# Altium footprint library NEUDOSE-Components.PcbLib: 27 footprints (part 2 of 2)
Each footprint in its own frame and in the unit in brackets; x right, y up, seen from the top. Pads: shape width x height; smd on the part's side, far side on the other; paste and mask are expansions set on the pad; w line width, h text height; cw(c..) or ccw(c..) is an arc to the next point about the centre after c.
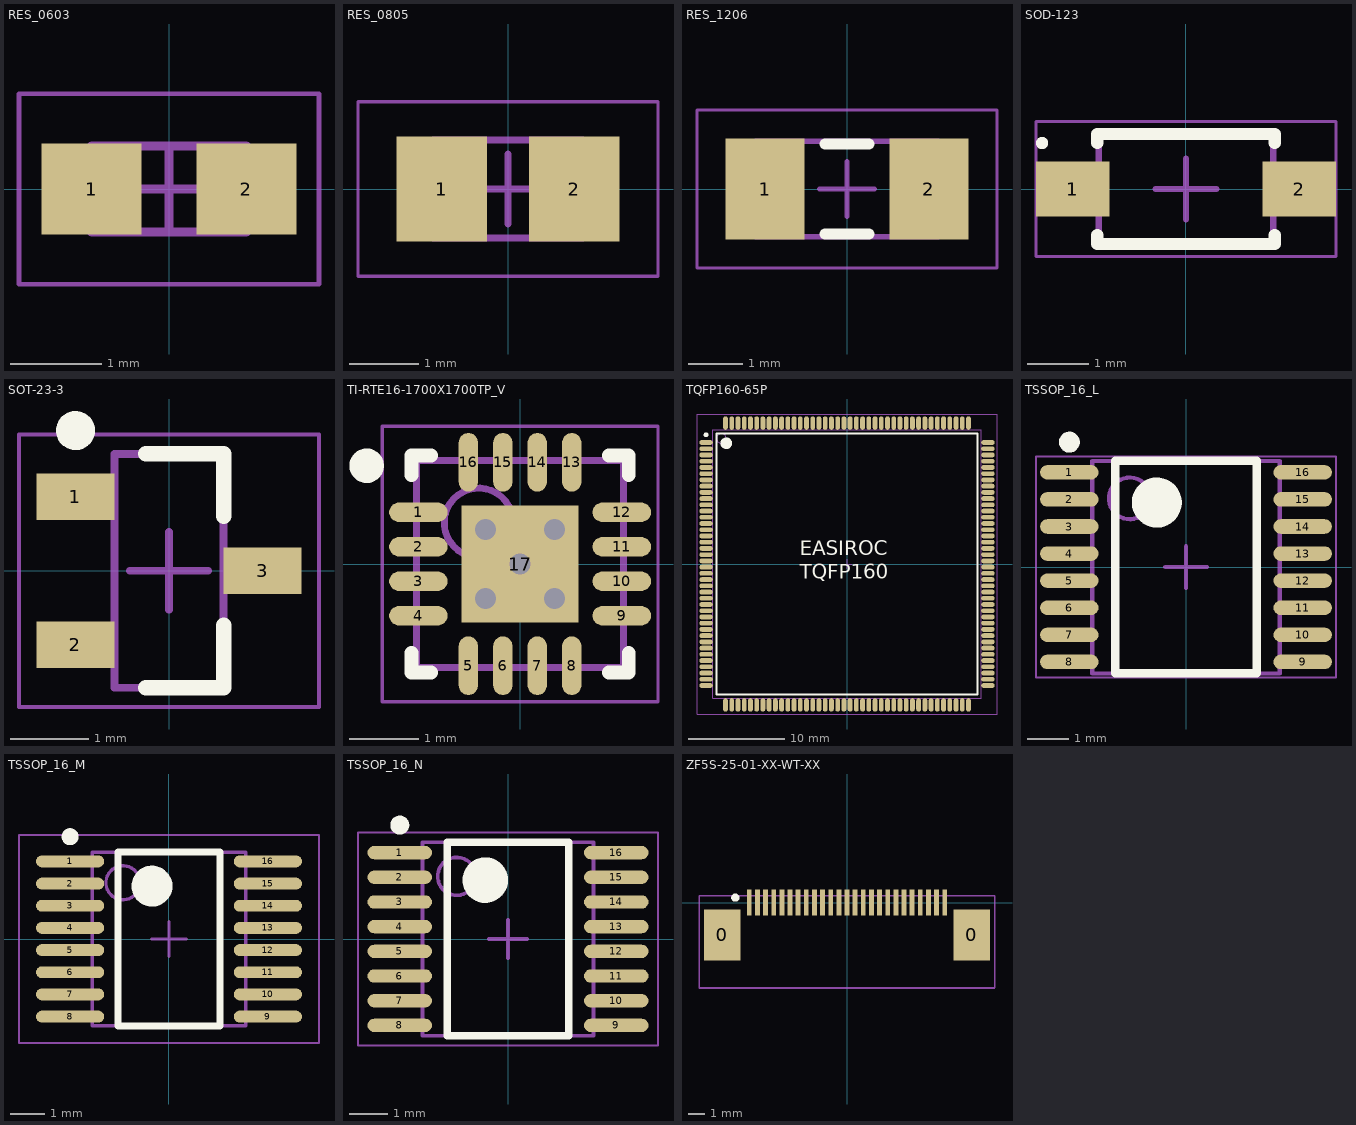
[diagram p1: the footprints below, top view; thin cyan lines are the x and y axes]

## RES_0603 [mm] "Chip Resistor, 2-Leads, Body 1.60x0.82mm, IPC Low Density"
height 0.6
pads (2):
  rect 1.1x1 smd: 1(-0.85,0) 2(0.85,0)
Mechanical 13:
  lines w0.1: -0.85,-0.475 0.85,-0.475 0.85,0.475 -0.85,0.475 -0.85,-0.475
Mechanical 15:
  lines w0.05: -1.65,-1.05 1.65,-1.05 1.65,1.05 -1.65,1.05 -1.65,-1.05
  lines w0.1: -0.475,0 0.475,0 ; 0,-0.475 0,0.475
3D body: height 0.6, standoff 0, extent 0.57,-0.475 0.85,0.475
3D body: height 0.6, standoff 0, extent -0.85,-0.475 -0.57,0.475
3D body: height 0.6, standoff 0, extent -0.57,-0.475 0.57,0.475

## RES_0805 [mm] "Chip Resistor, 2-Leads, Body 2.00x1.25mm, IPC Low Density"
height 0.65
pads (2):
  rect 1.3x1.5 smd: 1(-0.95,0) 2(0.95,0)
Mechanical 13:
  lines w0.1: -1.075,-0.7 -1.075,0.7 1.075,0.7 1.075,-0.7 -1.075,-0.7
Mechanical 15:
  lines w0.05: -2.15,-1.25 -2.15,1.25 2.15,1.25 2.15,-1.25 -2.15,-1.25
  lines w0.1: -0.5,0 0.5,0 ; 0,-0.5 0,0.5
3D body: height 0.65, standoff 0, extent -0.675,-0.7 0.675,0.7
3D body: height 0.65, standoff 0, extent -1.075,-0.7 -0.675,0.7
3D body: height 0.65, standoff 0, extent 0.675,-0.7 1.075,0.7

## RES_1206 [mm] "Chip Resistor, 2-Leads, Body 3.20x1.60mm, IPC Low Density"
height 0.71
pads (2):
  rect 1.45x1.85 smd: 1(-1.5,0) 2(1.5,0)
Top Overlay:
  lines w0.2: -0.4,-0.825 0.4,-0.825 ; -0.4,0.825 0.4,0.825
Mechanical 13:
  lines w0.1: -1.675,-0.875 1.675,-0.875 1.675,0.875 -1.675,0.875 -1.675,-0.875
Mechanical 15:
  lines w0.05: -2.75,-1.45 2.75,-1.45 2.75,1.45 -2.75,1.45 -2.75,-1.45
  lines w0.1: -0.5,0 0.5,0 ; 0,-0.5 0,0.5
3D body: height 0.71, standoff 0, extent 1.175,-0.875 1.675,0.875
3D body: height 0.71, standoff 0, extent -1.675,-0.875 -1.175,0.875
3D body: height 0.71, standoff 0, extent -1.175,-0.875 1.175,0.875

## SOD-123 [mm] "SOD-123, 2-Leads, Body 1.60x3.70mm, IPC Low Density"
height 1.35
pads (2):
  rect 1.2x0.9 smd: 1(-1.85,0) 2(1.85,0)
Top Overlay:
  circle w0.1: c-2.35,0.75 r0.05
  lines w0.2: -1.45,-0.75 -1.45,-0.9 1.45,-0.9 1.45,-0.75 ; -1.45,0.75 -1.45,0.9 1.45,0.9 1.45,0.75
Mechanical 13:
  lines w0.1: -1.425,-0.9 1.425,-0.9 1.425,0.9 -1.425,0.9 -1.425,-0.9
Mechanical 15:
  lines w0.05: -2.45,-1.1 2.45,-1.1 2.45,1.1 -2.45,1.1 -2.45,-1.1
  lines w0.1: -0.5,0 0.5,0 ; 0,-0.5 0,0.5
3D body: height 1.35, standoff 0, extent -1.425,-0.9 1.425,0.9

## SOT-23-3 [mm] "SOT23, 3-Leads, Body 2.90x2.45mm, Pitch 0.95mm, IPC Medium Density"
height 1.1
pads (3):
  rect 1x0.6 smd: 1(-1.2,0.95) 2(-1.2,-0.95) 3(1.2,0)
Top Overlay:
  circle w0.25: c-1.2,1.8 r0.125
  lines w0.2: -0.3,-1.5 0.7,-1.5 0.7,-0.7 ; -0.3,1.5 0.7,1.5 0.7,0.7
Mechanical 13:
  lines w0.1: -0.7,-1.5 -0.7,1.5 0.7,1.5 0.7,-1.5 -0.7,-1.5
Mechanical 15:
  lines w0.05: -1.925,-1.75 -1.925,1.75 1.925,1.75 1.925,-1.75 -1.925,-1.75
  lines w0.1: -0.5,0 0.5,0 ; 0,-0.5 0,0.5
3D body "SOT-23-3.STEP": height 1.01, standoff -0.01, extent -1.25,-1.46 1.226,1.46

## TI-RTE16-1700X1700TP_V [mm] "QFN, 16-Leads, Body 3x3mm, Pitch 0.5mm, Thermal Pad 1.7x1.7mm"
height 0.8
pads (17):
  oval 0.85x0.28 smd: 1(-1.475,0.75) 2(-1.475,0.25) 3(-1.475,-0.25) 4(-1.475,-0.75) 9(1.475,-0.75) 10(1.475,-0.25) 11(1.475,0.25) 12(1.475,0.75)
  oval 0.28x0.85 smd: 5(-0.75,-1.475) 6(-0.25,-1.475) 7(0.25,-1.475) 8(0.75,-1.475) 13(0.75,1.475) 14(0.25,1.475) 15(-0.25,1.475) 16(-0.75,1.475)
  rect 1.7x1.7 smd: 17(0,0)
via 0.5,-0.5 diameter 0.5 hole 0.3
via 0.5,0.5 diameter 0.5 hole 0.3
via -0.5,0.5 diameter 0.5 hole 0.3
via -0.5,-0.5 diameter 0.5 hole 0.3
via 0,0 diameter 0.5 hole 0.3
Top Overlay:
  circle w0.25: c-2.225,1.425 r0.125
  lines w0.2: -1.575,-1.29 -1.575,-1.575 -1.29,-1.575 ; -1.575,1.29 -1.575,1.575 -1.29,1.575 ; 1.29,-1.575 1.575,-1.575 1.575,-1.29 ; 1.29,1.575 1.575,1.575 1.575,1.29
Mechanical 13:
  circle w0.1: c-0.6,0.6 r0.5
  lines w0.1: -1.5,-1.5 -1.5,1.5 1.5,1.5 1.5,-1.5 -1.5,-1.5
Mechanical 15:
  lines w0.05: -2,-2 -2,2 2,2 2,-2 -2,-2
  lines w0.1: -0.5,0 0.5,0 ; 0,-0.5 0,0.5
3D body "QFN-16.step": height 0.9, standoff 0, extent -1.501,-1.501 1.501,1.501

## TQFP160-65P [mm] "TQFP (adapted from pqfp footprint), 160-Leads, Body 28.00x28.00mm, Pitch 0.65mm, IPC Medium Density"
height 4
pads (160):
  oval 1.4x0.5 smd: 1(-14.7,12.675) 2(-14.7,12.025) 3(-14.7,11.375) 4(-14.7,10.725) 5(-14.7,10.075) 6(-14.7,9.425) 7(-14.7,8.775) 8(-14.7,8.125) 9(-14.7,7.475) 10(-14.7,6.825) 11(-14.7,6.175) 12(-14.7,5.525) 13(-14.7,4.875) 14(-14.7,4.225) 15(-14.7,3.575) 16(-14.7,2.925) 17(-14.7,2.275) 18(-14.7,1.625) 19(-14.7,0.975) 20(-14.7,0.325) 21(-14.7,-0.325) 22(-14.7,-0.975) 23(-14.7,-1.625) 24(-14.7,-2.275) 25(-14.7,-2.925) 26(-14.7,-3.575) 27(-14.7,-4.225) 28(-14.7,-4.875) 29(-14.7,-5.525) 30(-14.7,-6.175) 31(-14.7,-6.825) 32(-14.7,-7.475) 33(-14.7,-8.125) 34(-14.7,-8.775) 35(-14.7,-9.425) 36(-14.7,-10.075) 37(-14.7,-10.725) 38(-14.7,-11.375) 39(-14.7,-12.025) 40(-14.7,-12.675) 81(14.7,-12.675) 82(14.7,-12.025) 83(14.7,-11.375) 84(14.7,-10.725) 85(14.7,-10.075) 86(14.7,-9.425) 87(14.7,-8.775) 88(14.7,-8.125) 89(14.7,-7.475) 90(14.7,-6.825) 91(14.7,-6.175) 92(14.7,-5.525) 93(14.7,-4.875) 94(14.7,-4.225) 95(14.7,-3.575) 96(14.7,-2.925) 97(14.7,-2.275) 98(14.7,-1.625) 99(14.7,-0.975) 100(14.7,-0.325) 101(14.7,0.325) 102(14.7,0.975) 103(14.7,1.625) 104(14.7,2.275) 105(14.7,2.925) 106(14.7,3.575) 107(14.7,4.225) 108(14.7,4.875) 109(14.7,5.525) 110(14.7,6.175) 111(14.7,6.825) 112(14.7,7.475) 113(14.7,8.125) 114(14.7,8.775) 115(14.7,9.425) 116(14.7,10.075) 117(14.7,10.725) 118(14.7,11.375) 119(14.7,12.025) 120(14.7,12.675)
  oval 0.5x1.4 smd: 41(-12.675,-14.7) 42(-12.025,-14.7) 43(-11.375,-14.7) 44(-10.725,-14.7) 45(-10.075,-14.7) 46(-9.425,-14.7) 47(-8.775,-14.7) 48(-8.125,-14.7) 49(-7.475,-14.7) 50(-6.825,-14.7) 51(-6.175,-14.7) 52(-5.525,-14.7) 53(-4.875,-14.7) 54(-4.225,-14.7) 55(-3.575,-14.7) 56(-2.925,-14.7) 57(-2.275,-14.7) 58(-1.625,-14.7) 59(-0.975,-14.7) 60(-0.325,-14.7) 61(0.325,-14.7) 62(0.975,-14.7) 63(1.625,-14.7) 64(2.275,-14.7) 65(2.925,-14.7) 66(3.575,-14.7) 67(4.225,-14.7) 68(4.875,-14.7) 69(5.525,-14.7) 70(6.175,-14.7) 71(6.825,-14.7) 72(7.475,-14.7) 73(8.125,-14.7) 74(8.775,-14.7) 75(9.425,-14.7) 76(10.075,-14.7) 77(10.725,-14.7) 78(11.375,-14.7) 79(12.025,-14.7) 80(12.675,-14.7) 121(12.675,14.7) 122(12.025,14.7) 123(11.375,14.7) 124(10.725,14.7) 125(10.075,14.7) 126(9.425,14.7) 127(8.775,14.7) 128(8.125,14.7) 129(7.475,14.7) 130(6.825,14.7) 131(6.175,14.7) 132(5.525,14.7) 133(4.875,14.7) 134(4.225,14.7) 135(3.575,14.7) 136(2.925,14.7) 137(2.275,14.7) 138(1.625,14.7) 139(0.975,14.7) 140(0.325,14.7) 141(-0.325,14.7) 142(-0.975,14.7) 143(-1.625,14.7) 144(-2.275,14.7) 145(-2.925,14.7) 146(-3.575,14.7) 147(-4.225,14.7) 148(-4.875,14.7) 149(-5.525,14.7) 150(-6.175,14.7) 151(-6.825,14.7) 152(-7.475,14.7) 153(-8.125,14.7) 154(-8.775,14.7) 155(-9.425,14.7) 156(-10.075,14.7) 157(-10.725,14.7) 158(-11.375,14.7) 159(-12.025,14.7) 160(-12.675,14.7)
Top Overlay:
  circle w0.25: c-14.7,13.475 r0.125
  circle w0.6: c-12.6,12.6 r0.3
  lines w0.2: -13.6,-13.6 -13.6,13.6 13.6,13.6 13.6,-13.6 -13.6,-13.6
  text "EASIROC" at -4.953,0.889 h1.52
  text "TQFP160" at -4.953,-1.524 h1.52
Mechanical 13:
  circle w0.1: c-13.1,13.1 r0.5
  lines w0.1: -14,-14 -14,14 14,14 14,-14 -14,-14
Mechanical 15:
  lines w0.05: -15.65,-15.65 -15.65,15.65 15.65,15.65 15.65,-15.65 -15.65,-15.65
  lines w0.1: -0.5,0 0.5,0 ; 0,-0.5 0,0.5
3D body: height 4, standoff 0, extent -14,-14 14,14

## TSSOP_16_L [mm] "TSOP, 16-Leads, Body 5x4.4mm, Pitch 0.65mm, IPC High Density"
height 1.1
pads (16):
  oval 1.4x0.35 smd: 1(-2.8,2.275) 2(-2.8,1.625) 3(-2.8,0.975) 4(-2.8,0.325) 5(-2.8,-0.325) 6(-2.8,-0.975) 7(-2.8,-1.625) 8(-2.8,-2.275) 9(2.8,-2.275) 10(2.8,-1.625) 11(2.8,-0.975) 12(2.8,-0.325) 13(2.8,0.325) 14(2.8,0.975) 15(2.8,1.625) 16(2.8,2.275)
Top Overlay:
  circle w0.6: c-0.7,1.55 r0.3
  circle w0.25: c-2.8,3 r0.125
  lines w0.2: -1.7,-2.55 1.7,-2.55 1.7,2.55 -1.7,2.55 -1.7,-2.55
Mechanical 13:
  circle w0.1: c-1.35,1.65 r0.5
  lines w0.1: -2.25,-2.55 2.25,-2.55 2.25,2.55 -2.25,2.55 -2.25,-2.55
Mechanical 15:
  lines w0.05: -3.6,-2.65 3.6,-2.65 3.6,2.65 -3.6,2.65 -3.6,-2.65
  lines w0.1: -0.5,0 0.5,0 ; 0,-0.5 0,0.5
3D body "TSSOP-16-1.step": height 1.1, standoff 0, extent -3.2,-2.5 3.2,2.5

## TSSOP_16_M [mm] "TSOP, 16-Leads, Body 5x4.4mm, Pitch 0.65mm, IPC Low Density"
height 1.1
pads (16):
  oval 2x0.35 smd: 1(-2.9,2.275) 2(-2.9,1.625) 3(-2.9,0.975) 4(-2.9,0.325) 5(-2.9,-0.325) 6(-2.9,-0.975) 7(-2.9,-1.625) 8(-2.9,-2.275) 9(2.9,-2.275) 10(2.9,-1.625) 11(2.9,-0.975) 12(2.9,-0.325) 13(2.9,0.325) 14(2.9,0.975) 15(2.9,1.625) 16(2.9,2.275)
Top Overlay:
  circle w0.25: c-2.9,3 r0.125
  circle w0.6: c-0.5,1.55 r0.3
  lines w0.2: -1.5,-2.55 -1.5,2.55 1.5,2.55 1.5,-2.55 -1.5,-2.55
Mechanical 13:
  circle w0.1: c-1.35,1.65 r0.5
  lines w0.1: -2.25,-2.55 -2.25,2.55 2.25,2.55 2.25,-2.55 -2.25,-2.55
Mechanical 15:
  lines w0.05: -4.4,-3.05 -4.4,3.05 4.4,3.05 4.4,-3.05 -4.4,-3.05
  lines w0.1: -0.5,0 0.5,0 ; 0,-0.5 0,0.5
3D body "TSSOP-16-1.step": height 1.1, standoff 0, extent -3.2,-2.5 3.2,2.5

## TSSOP_16_N [mm] "TSOP, 16-Leads, Body 5x4.4mm, Pitch 0.65mm, IPC Medium Density"
height 1.1
pads (16):
  oval 1.7x0.35 smd: 1(-2.85,2.275) 2(-2.85,1.625) 3(-2.85,0.975) 4(-2.85,0.325) 5(-2.85,-0.325) 6(-2.85,-0.975) 7(-2.85,-1.625) 8(-2.85,-2.275) 9(2.85,-2.275) 10(2.85,-1.625) 11(2.85,-0.975) 12(2.85,-0.325) 13(2.85,0.325) 14(2.85,0.975) 15(2.85,1.625) 16(2.85,2.275)
Top Overlay:
  circle w0.6: c-0.6,1.55 r0.3
  circle w0.25: c-2.85,3 r0.125
  lines w0.2: -1.6,-2.55 1.6,-2.55 1.6,2.55 -1.6,2.55 -1.6,-2.55
Mechanical 13:
  circle w0.1: c-1.35,1.65 r0.5
  lines w0.1: -2.25,-2.55 2.25,-2.55 2.25,2.55 -2.25,2.55 -2.25,-2.55
Mechanical 15:
  lines w0.05: -3.95,-2.8 3.95,-2.8 3.95,2.8 -3.95,2.8 -3.95,-2.8
  lines w0.1: -0.5,0 0.5,0 ; 0,-0.5 0,0.5
3D body "TSSOP-16-1.step": height 1.1, standoff 0, extent -3.2,-2.5 3.2,2.5

## ZF5S-25-01-XX-WT-XX [mm] "SAMTEC CONN FFC BOTTOM 8POS 0.50MM R/A"
pads (27):
  rect 2.24x3.12 smd: 0(-7.65,-1.98) 0(7.65,-1.98)
  rect 0.3x1.6 smd mask+0.102: 1(-6,0)
  rect 0.3x1.6 smd: 2(-5.5,0) 3(-5,0) 4(-4.5,0) 5(-4,0) 6(-3.5,0) 7(-3,0) 8(-2.5,0) 9(-2,0) 10(-1.5,0) 11(-1,0) 12(-0.5,0) 13(0,0) 14(0.5,0) 15(1,0) 16(1.5,0) 17(2,0) 18(2.5,0) 19(3,0) 20(3.5,0) 21(4,0) 22(4.5,0) 23(5,0) 24(5.5,0) 25(6,0)
Top Overlay:
  circle w0.25: c-6.858,0.305 r0.125
Mechanical 13:
  lines w0.1: -9.075,-5.23 -9.075,0.43 9.075,0.43 9.075,-5.23 -9.075,-5.23
Mechanical 15:
  lines w0.05: -9.075,-5.27 9.075,-5.27 9.075,0.407 -9.075,0.407 -9.075,-5.27
3D body "ZF5S-25-01-X-WT.step": height 2.1, standoff -0.04, extent -9.075,-5.27 9.075,0.407